# EAGLE library part CONN-RECT-6PIN (library FirePick)
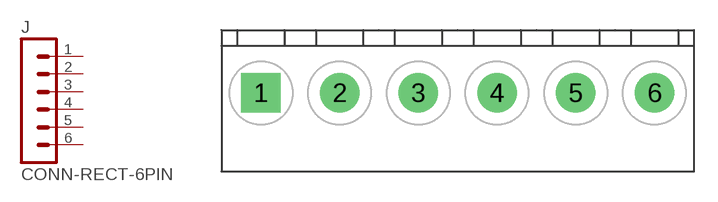
[diagram p17: symbol with the pads of CONN-OSTTA060161; footprint CONN-OSTTA060161]

Designator prefix J

## CONN-RECT-6PINOSTTA060161  [CONN-OSTTA060161]
1  1  pas
2  2  pas
3  3  pas
4  4  pas
5  5  pas
6  6  pas

## Footprint CONN-OSTTA060161 (pad centres in mm)
drill 1.4 pad 2.5 square: 1 -12.5,0
drill 1.4 pad 2.5: 2 -7.5,0; 3 -2.5,0; 4 2.5,0; 5 7.5,0; 6 12.5,0